# Altium footprint library 主控板.PcbLib: 15 footprints
Each footprint in its own frame and in the unit in brackets; x right, y up, seen from the top. Pads: shape width x height; smd on the part's side, far side on the other; paste and mask are expansions set on the pad; w line width, h text height; cw(c..) or ccw(c..) is an arc to the next point about the centre after c.
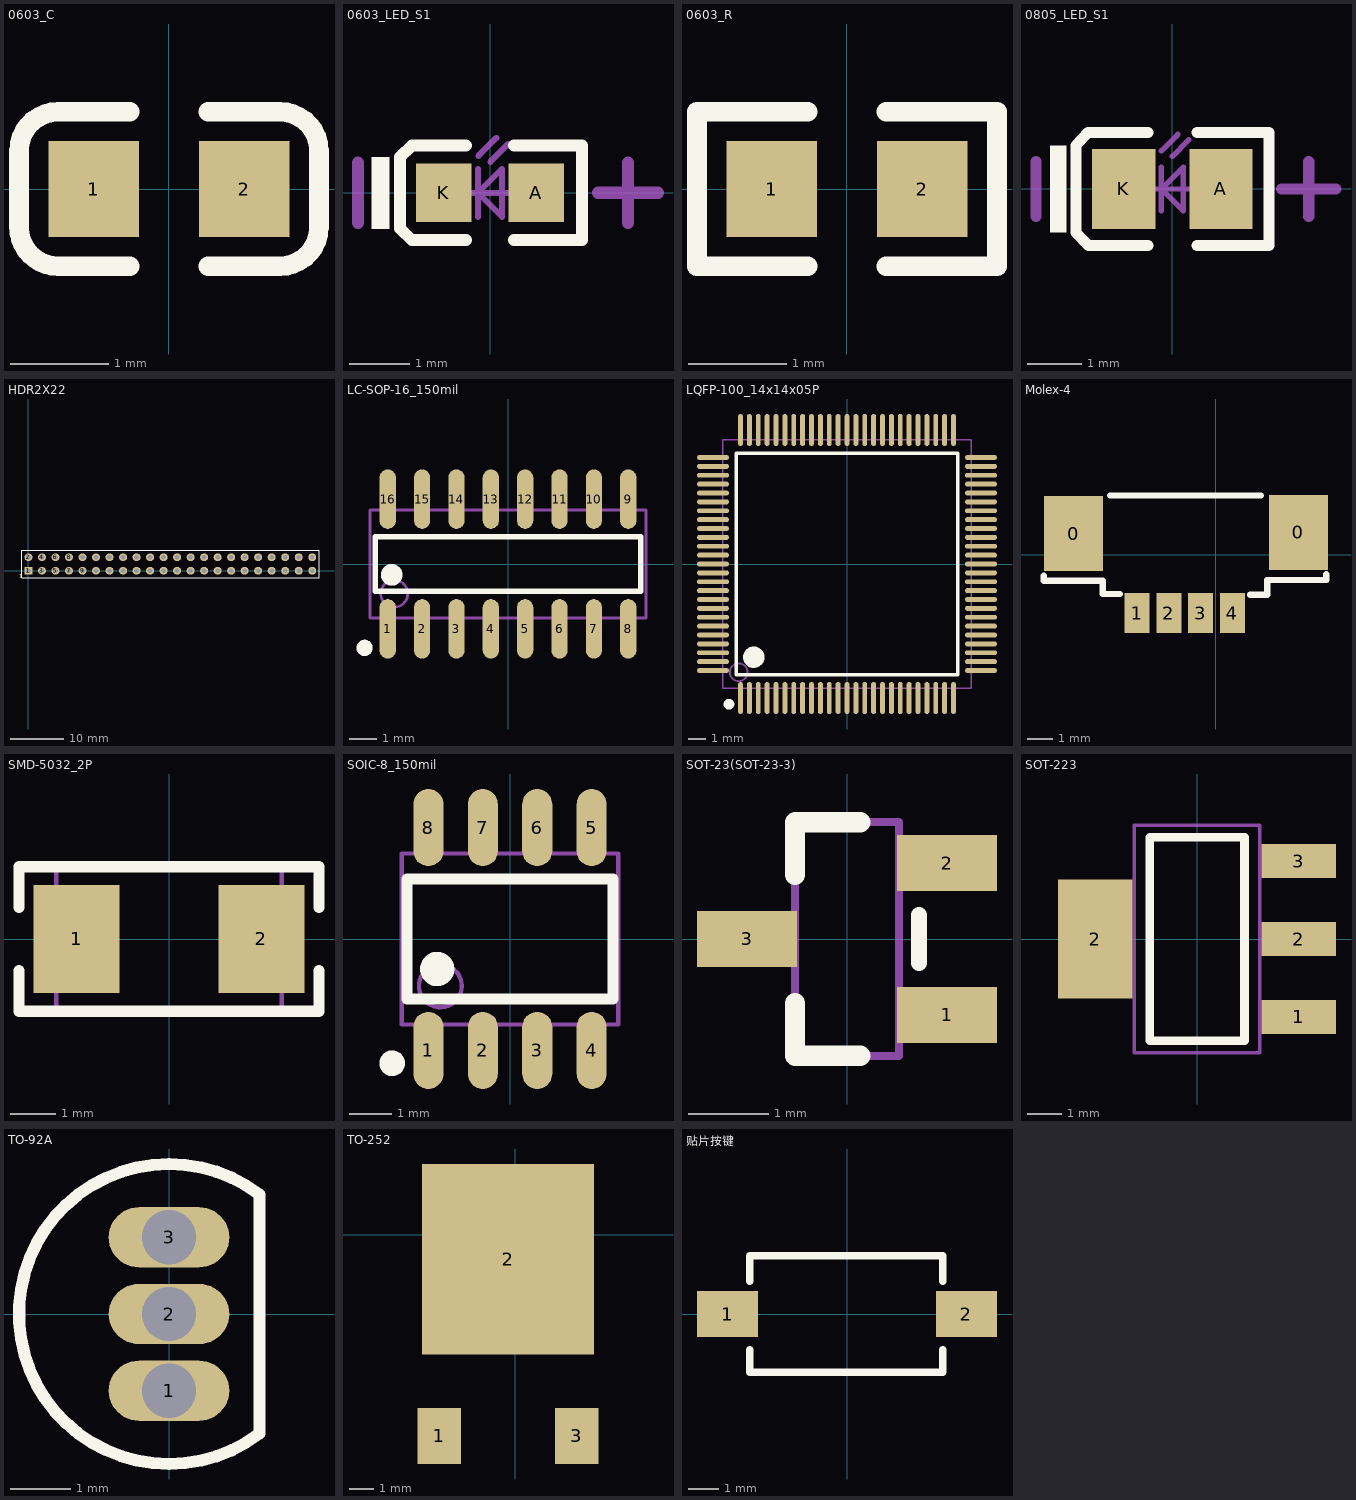
[diagram p0: the footprints below, top view; thin cyan lines are the x and y axes]

## 0603_C [mm]
pads (2):
  rect 0.93x0.98 smd: 1(-0.77,0) 2(0.77,0)
Top Overlay:
  lines w0.2: -0.4,-0.79 -1.135,-0.79 cw(c-1.135,-0.39) -1.535,-0.39 -1.535,0.39 cw(c-1.135,0.39) -1.135,0.79 -0.4,0.79 ; 0.4,-0.79 1.135,-0.79 ccw(c1.135,-0.39) 1.535,-0.39 1.535,0.39 ccw(c1.135,0.39) 1.135,0.79 0.4,0.79
3D body "User Library-0603 SMD Capacitor.STEP": height 0.3, standoff 0, extent -0.8,-0.4 0.8,0.4

## 0603_LED_S1 [mm]
pads (2):
  rect 0.93x0.98 smd: A(0.77,0) K(-0.77,0)
Top Overlay:
  rectangle: -1.975,-0.6 -1.675,0.6
  lines w0.2: -0.4,-0.79 -1.3,-0.79 -1.5,-0.597 -1.5,0.597 -1.3,0.79 -0.4,0.79 ; 0.4,-0.79 1.535,-0.79 1.535,0.79 0.4,0.79
Mechanical 13:
  lines w0.1: -0.4,0 0.4,0 ; -0.2,-0.4 -0.2,0.4 ; -0.195,0.617 0.105,0.917 ; 0.005,0.517 0.305,0.817 ; -0.2,0 0.2,0.4 0.2,-0.4 -0.2,0
Mechanical 15:
  lines w0.203: -2.2,-0.5 -2.2,0.5 ; 1.8,0 2.8,0 ; 2.3,-0.5 2.3,0.5
3D body "User Library-LED_0603_R.STEP": height 0.6, standoff 0, extent -0.8,-0.4 0.8,0.4

## 0603_R [mm]
pads (2):
  rect 0.93x0.98 smd: 1(-0.77,0) 2(0.77,0)
Top Overlay:
  lines w0.2: -0.4,-0.79 -1.535,-0.79 -1.535,0.79 -0.4,0.79 ; 0.4,-0.79 1.535,-0.79 1.535,0.79 0.4,0.79
3D body "User Library-RES_1609-0603.STEP": height 0.56, standoff 0, extent -0.85,-0.4 0.85,0.4

## 0805_LED_S1 [mm]
pads (2):
  rect 1.16x1.47 smd: A(0.89,0) K(-0.89,0)
Top Overlay:
  rectangle: -2.245,-0.8 -1.945,0.8
  lines w0.2: -0.45,-1.035 -1.535,-1.035 -1.77,-0.8 -1.77,0.8 -1.55,1.035 -0.45,1.035 ; 0.45,-1.035 1.77,-1.035 1.77,1.035 0.45,1.035
Mechanical 13:
  lines w0.1: -0.4,0 0.4,0 ; -0.2,-0.4 -0.2,0.4 ; -0.2,0.7 0.1,1 ; 0,0.6 0.3,0.9 ; -0.2,0 0.2,0.4 0.2,-0.4 -0.2,0
Mechanical 15:
  lines w0.203: -2.5,-0.5 -2.5,0.5 ; 2,0 3,0 ; 2.5,-0.5 2.5,0.5
3D body "User Library-led_0805.step": height 1.1, standoff 0, extent -1.01,-0.625 1.01,0.625

## HDR2X22 [mm]
pads (44):
  rect 1.5x1.5 hole 0.9: 1(0,0)
  round 1.5 hole 0.9: 2(0,2.54) 3(2.54,0) 4(2.54,2.54) 5(5.08,0) 6(5.08,2.54) 7(7.62,0) 8(7.62,2.54) 9(10.16,0) 10(10.16,2.54) 11(12.7,0) 12(12.7,2.54) 13(15.24,0) 14(15.24,2.54) 15(17.78,0) 16(17.78,2.54) 17(20.32,0) 18(20.32,2.54) 19(22.86,0) 20(22.86,2.54) 21(25.4,0) 22(25.4,2.54) 23(27.94,0) 24(27.94,2.54) 25(30.48,0) 26(30.48,2.54) 27(33.02,0) 28(33.02,2.54) 29(35.56,0) 30(35.56,2.54) 31(38.1,0) 32(38.1,2.54) 33(40.64,0) 34(40.64,2.54) 35(43.18,0) 36(43.18,2.54) 37(45.72,0) 38(45.72,2.54) 39(48.26,0) 40(48.26,2.54) 41(50.8,0) 42(50.8,2.54) 43(53.34,0) 44(53.34,2.54)
Top Overlay:
  lines w0.2: -1.27,-1.27 54.61,-1.27 54.61,3.81 -1.27,3.81 -1.27,-1.27
  text "1" at -1.778,-1.27 h0.71

## LC-SOP-16_150mil [mm]
pads (16):
  oval 0.6x2.2 smd: 1(-4.445,-2.4) 2(-3.175,-2.4) 3(-1.905,-2.4) 4(-0.635,-2.4) 5(0.635,-2.4) 6(1.905,-2.4) 7(3.175,-2.4) 8(4.445,-2.4) 9(4.445,2.4) 10(3.175,2.4) 11(1.905,2.4) 12(0.635,2.4) 13(-0.635,2.4) 14(-1.905,2.4) 15(-3.175,2.4) 16(-4.445,2.4)
Top Overlay:
  circle w0.3: c-5.3,-3.1 r0.15
  circle w0.4: c-4.3,-0.4 r0.2
  lines w0.2: -4.9,-1 -4.9,1 4.9,1 4.9,-1 -4.9,-1
Mechanical 13:
  circle w0.1: c-4.205,-1.095 r0.5
  lines w0.1: -5.105,-1.995 -5.105,1.995 5.105,1.995 5.105,-1.995 -5.105,-1.995

## LQFP-100_14x14x05P [mm]
pads (100):
  oval 0.28x1.8 smd mask+0.051: 1(-6,-7.55) 2(-5.5,-7.55) 3(-5,-7.55) 4(-4.5,-7.55) 5(-4,-7.55) 6(-3.5,-7.55) 7(-3,-7.55) 8(-2.5,-7.55) 9(-2,-7.55) 10(-1.5,-7.55) 11(-1,-7.55) 12(-0.5,-7.55) 13(0,-7.55) 14(0.5,-7.55) 15(1,-7.55) 16(1.5,-7.55) 17(2,-7.55) 18(2.5,-7.55) 19(3,-7.55) 20(3.5,-7.55) 21(4,-7.55) 22(4.5,-7.55) 23(5,-7.55) 24(5.5,-7.55) 25(6,-7.55) 51(6,7.55) 52(5.5,7.55) 53(5,7.55) 54(4.5,7.55) 55(4,7.55) 56(3.5,7.55) 57(3,7.55) 58(2.5,7.55) 59(2,7.55) 60(1.5,7.55) 61(1,7.55) 62(0.5,7.55) 63(0,7.55) 64(-0.5,7.55) 65(-1,7.55) 66(-1.5,7.55) 67(-2,7.55) 68(-2.5,7.55) 69(-3,7.55) 70(-3.5,7.55) 71(-4,7.55) 72(-4.5,7.55) 73(-5,7.55) 74(-5.5,7.55) 75(-6,7.55)
  oval 1.8x0.28 smd mask+0.051: 26(7.55,-6) 27(7.55,-5.5) 28(7.55,-5) 29(7.55,-4.5) 30(7.55,-4) 31(7.55,-3.5) 32(7.55,-3) 33(7.55,-2.5) 34(7.55,-2) 35(7.55,-1.5) 36(7.55,-1) 37(7.55,-0.5) 38(7.55,0) 39(7.55,0.5) 40(7.55,1) 41(7.55,1.5) 42(7.55,2) 43(7.55,2.5) 44(7.55,3) 45(7.55,3.5) 46(7.55,4) 47(7.55,4.5) 48(7.55,5) 49(7.55,5.5) 50(7.55,6) 76(-7.55,6) 77(-7.55,5.5) 78(-7.55,5) 79(-7.55,4.5) 80(-7.55,4) 81(-7.55,3.5) 82(-7.55,3) 83(-7.55,2.5) 84(-7.55,2) 85(-7.55,1.5) 86(-7.55,1) 87(-7.55,0.5) 88(-7.55,0) 89(-7.55,-0.5) 90(-7.55,-1) 91(-7.55,-1.5) 92(-7.55,-2) 93(-7.55,-2.5) 94(-7.55,-3) 95(-7.55,-3.5) 96(-7.55,-4) 97(-7.55,-4.5) 98(-7.55,-5) 99(-7.55,-5.5) 100(-7.55,-6)
Top Overlay:
  circle w0.3: c-6.65,-7.9 r0.15
  circle w0.6: c-5.25,-5.25 r0.3
  lines w0.2: -6.25,-6.25 6.25,-6.25 6.25,6.25 -6.25,6.25 -6.25,-6.25
Mechanical 13:
  circle w0.1: c-6.1,-6.1 r0.5
  lines w0.1: -7,-7 7,-7 7,7 -7,7 -7,-7

## Molex-4 [mm]
pads (6):
  rect 2.35x3 smd: 0(-5.687,0.852) 0(3.3,0.901)
  rect 1x1.6 smd: 1(-3.147,-2.323) 2(-1.877,-2.323) 3(-0.607,-2.323) 4(0.663,-2.323)
Top Overlay:
  lines w0.254: -6.881,-0.825 -6.881,-1.028 -4.519,-1.028 -4.519,-1.561 -3.833,-1.561 ; -4.214,2.376 1.8,2.376 ; 1.363,-1.583 2.049,-1.583 2.049,-0.999 4.411,-0.999 4.411,-0.77

## SMD-5032_2P [mm]
pads (2):
  rect 1.9x2.4 smd: 1(-2.05,0) 2(2.05,0)
Top Overlay:
  lines w0.254: -3.325,-0.7 -3.325,-1.6 3.325,-1.6 3.325,-0.7 ; -3.325,0.7 -3.325,1.6 3.325,1.6 3.325,0.7
Mechanical 13:
  lines w0.1: -2.5,-1.6 -2.5,1.6 2.5,1.6 2.5,-1.6 -2.5,-1.6

## SOIC-8_150mil [mm]
pads (8):
  oval 0.7x1.8 smd: 1(-1.905,-2.6) 2(-0.635,-2.6) 3(0.635,-2.6) 4(1.905,-2.6) 5(1.905,2.6) 6(0.635,2.6) 7(-0.635,2.6) 8(-1.905,2.6)
Top Overlay:
  circle w0.3: c-2.75,-2.9 r0.15
  circle w0.4: c-1.7,-0.7 r0.2
  lines w0.254: -2.4,-1.4 2.4,-1.4 2.4,1.4 -2.4,1.4 -2.4,-1.4
Mechanical 13:
  circle w0.1: c-1.625,-1.095 r0.5
  lines w0.1: -2.525,-1.995 2.525,-1.995 2.525,1.995 -2.525,1.995 -2.525,-1.995

## SOT-23(SOT-23-3) [mm]
pads (3):
  rect 1.25x0.7 smd: 1(1.25,-0.95) 2(1.25,0.95) 3(-1.25,0)
Top Overlay:
  lines w0.2: 0.9,-0.3 0.9,0.3
  lines w0.254: -0.65,-0.8 -0.65,-1.46 0.165,-1.46 ; 0.165,1.46 -0.65,1.46 ; -0.65,0.8 -0.65,1.46 ; -0.65,0.8 -0.65,1.46 ; -0.65,0.8 -0.65,1.46
Mechanical 13:
  lines w0.1: -0.65,-1.46 -0.65,1.46 ; -0.65,-1.46 0.65,-1.46 ; -0.65,-1.46 -0.65,1.46 ; -0.65,-1.46 0.65,-1.46 ; -0.65,-1.46 0.65,-1.46 ; -0.65,-1.46 -0.65,1.46 ; -0.65,1.46 0.65,1.46 ; -0.65,1.46 0.65,1.46 ; -0.65,1.46 0.65,1.46 ; 0.65,-1.46 0.65,1.46 ; 0.65,-1.46 0.65,1.46 ; 0.65,-1.46 0.65,1.46
3D body "SOT-23.step": height 1.3, standoff 0, extent -1.5,-1.5 1.5,1.5

## SOT-223 [mm]
pads (4):
  rect 2.2x1 smd: 1(3,-2.3) 2(3,0) 3(3,2.3)
  rect 2.2x3.5 smd: 2(-3,0)
Top Overlay:
  lines w0.254: -1.4,-3 1.4,-3 1.4,3 -1.4,3 -1.4,-3
Mechanical 13:
  lines w0.1: -1.85,-3.35 -1.85,3.35 1.85,3.35 1.85,-3.35 -1.85,-3.35
3D body "TO-223.STEP": height 1.64, standoff -0.04, extent -3.49,-3.242 3.49,3.243

## TO-92A [mm]
pads (3):
  oval 2x1 hole 0.9: 1(0,-1.27) 2(0,0) 3(0,1.27)
Top Overlay:
  lines w0.2: 1.5,-1.98 cw(c0,0) 1.5,1.98 1.5,-1.98

## TO-252 [mm]
pads (3):
  rect 1.778x2.286 smd: 1(-3.1,-8.2) 3(2.5,-8.2)
  rect 7x7.762 smd: 2(-0.3,-1)

## 贴片按键 [mm]
pads (2):
  rect 2x1.5 smd: 1(-3.9,0) 2(3.9,0)
Top Overlay:
  lines w0.254: -3.175,-1.168 -3.175,-1.9 3.125,-1.9 3.125,-1.168 ; -3.175,1.067 -3.175,1.9 3.125,1.9 3.125,1.067
3D body "SMD按键.STEP": height 2.5, standoff 0, extent -3.959,-1.945 3.931,1.905